# Altium schematic symbol library AVR_Attiny104_1.Schlib: 1 symbol
Pins are listed as number, name and electrical type; pins without a type are passive.

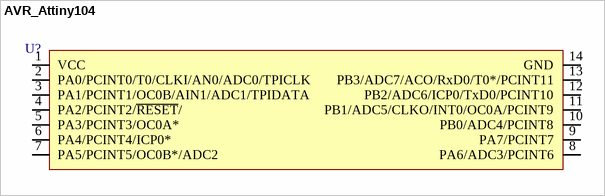
[diagram p0: symbol AVR_Attiny104]

## AVR_Attiny104
designator U?, comment ATTINY104  (value not drawn)
footprint ATTINY104-14SOIC
pins: 1 VCC, 2 PA0/PCINT0/T0/CLKI/AN0/ADC0/TPICLK, 3 PA1/PCINT1/OC0B/AIN1/ADC1/TPIDATA, 4 PA2/PCINT2/~{RESET}/, 5 PA3/PCINT3/OC0A*, 6 PA4/PCINT4/ICP0*, 7 PA5/PCINT5/OC0B*/ADC2, 8 PA6/ADC3/PCINT6, 9 PA7/PCINT7, 10 PB0/ADC4/PCINT8, 11 PB1/ADC5/CLKO/INT0/OC0A/PCINT9, 12 PB2/ADC6/ICP0/TxD0/PCINT10, 13 PB3/ADC7/ACO/RxD0/T0*/PCINT11, 14 GND